# Altium footprint library xL865.PcbLib: 1 footprints
Each footprint in its own frame and in the unit in brackets; x right, y up, seen from the top. Pads: shape width x height; smd on the part's side, far side on the other; paste and mask are expansions set on the pad; w line width, h text height; cw(c..) or ccw(c..) is an arc to the next point about the centre after c.
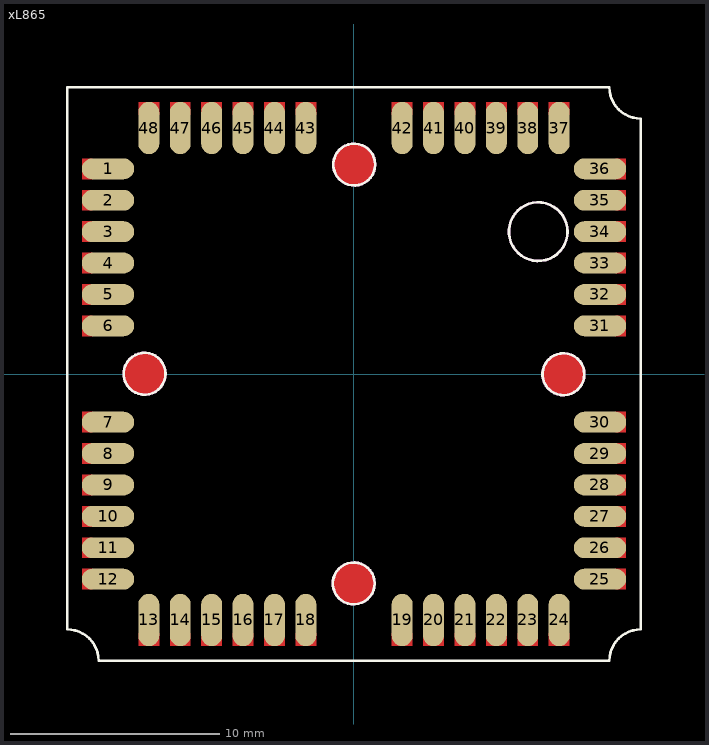
[diagram p0: the footprint, top view; thin cyan lines are the x and y axes]

## xL865 [mm]
pads (48):
  oval 2.5x1 smd paste+0 mask+0.05: 1(-11.75,9.8) 2(-11.75,8.3) 3(-11.75,6.8) 4(-11.75,5.3) 5(-11.75,3.8) 6(-11.75,2.3) 7(-11.75,-2.3) 8(-11.75,-3.8) 9(-11.75,-5.3) 10(-11.75,-6.8) 11(-11.75,-8.3) 12(-11.75,-9.8) 25(11.75,-9.8) 26(11.75,-8.3) 27(11.75,-6.8) 28(11.75,-5.3) 29(11.75,-3.8) 30(11.75,-2.3) 31(11.75,2.3) 32(11.75,3.8) 33(11.75,5.3) 34(11.75,6.8) 35(11.75,8.3) 36(11.75,9.8)
  oval 1x2.5 smd paste+0 mask+0.05: 13(-9.8,-11.75) 14(-8.3,-11.75) 15(-6.8,-11.75) 16(-5.3,-11.75) 17(-3.8,-11.75) 18(-2.3,-11.75) 19(2.3,-11.75) 20(3.8,-11.75) 21(5.3,-11.75) 22(6.8,-11.75) 23(8.3,-11.75) 24(9.8,-11.75) 37(9.8,11.75) 38(8.3,11.75) 39(6.8,11.75) 40(5.3,11.75) 41(3.8,11.75) 42(2.3,11.75) 43(-2.3,11.75) 44(-3.8,11.75) 45(-5.3,11.75) 46(-6.8,11.75) 47(-8.3,11.75) 48(-9.8,11.75)
Top Layer:
  rectangle: 1.8,-13 2.8,-12.375
  rectangle: 4.8,-13 5.8,-12.375
  rectangle: 7.8,-13 8.8,-12.375
  rectangle: 9.3,-13 10.3,-12.375
  rectangle: 6.3,-13 7.3,-12.375
  rectangle: 3.3,-13 4.3,-12.375
  rectangle: -10.3,-13 -9.3,-12.375
  rectangle: -7.3,-13 -6.3,-12.375
  rectangle: -4.3,-13 -3.3,-12.375
  rectangle: -2.8,-13 -1.8,-12.375
  rectangle: -5.8,-13 -4.8,-12.375
  rectangle: -8.8,-13 -7.8,-12.375
  rectangle: 1.8,12.375 2.8,13
  rectangle: 4.8,12.375 5.8,13
  rectangle: 7.8,12.375 8.8,13
  rectangle: 9.3,12.375 10.3,13
  rectangle: 6.3,12.375 7.3,13
  rectangle: 3.3,12.375 4.3,13
  rectangle: -8.8,12.375 -7.8,13
  rectangle: -5.8,12.375 -4.8,13
  rectangle: -2.8,12.375 -1.8,13
  rectangle: -4.3,12.375 -3.3,13
  rectangle: -7.3,12.375 -6.3,13
  rectangle: -10.3,12.375 -9.3,13
  rectangle: 12.5,-2.8 13,-1.8
  rectangle: 12.5,-4.3 13,-3.3
  rectangle: 12.5,-7.3 13,-6.3
  rectangle: 12.5,-5.8 13,-4.8
  rectangle: 12.5,-10.3 13,-9.3
  rectangle: 12.5,-8.8 13,-7.8
  rectangle: 12.5,9.3 13,10.3
  rectangle: 12.5,7.8 13,8.8
  rectangle: 12.5,4.8 13,5.8
  rectangle: 12.5,6.3 13,7.3
  rectangle: 12.5,1.8 13,2.8
  rectangle: 12.5,3.3 13,4.3
  rectangle: -13,-2.8 -12.5,-1.8
  rectangle: -13,-4.3 -12.5,-3.3
  rectangle: -13,-7.3 -12.5,-6.3
  rectangle: -13,-5.8 -12.5,-4.8
  rectangle: -13,-10.3 -12.5,-9.3
  rectangle: -13,-8.8 -12.5,-7.8
  rectangle: -13,3.3 -12.5,4.3
  rectangle: -13,1.8 -12.5,2.8
  rectangle: -13,6.3 -12.5,7.3
  rectangle: -13,4.8 -12.5,5.8
  rectangle: -13,7.8 -12.5,8.8
  rectangle: -13,9.3 -12.5,10.3
  pour cut-out: -0.991,9.962 -0.991,9.968 -0.991,10.071 -0.951,10.272 -0.872,10.461 -0.758,10.632 -0.613,10.777 -0.442,10.891 -0.253,10.969 -0.052,11.009 0.051,11.009 0.143,11.009 0.325,10.973 0.496,10.902 0.65,10.8 0.781,10.669 0.884,10.515 0.954,10.344 0.991,10.162 0.991,10.07 0.991,9.962 0.991,9.869 0.954,9.686 0.883,9.514 0.78,9.36 0.648,9.228 0.493,9.125 0.321,9.053 0.139,9.017 0.046,9.017 -0.046,9.017 -0.139,9.017 -0.321,9.053 -0.493,9.125 -0.648,9.228 -0.78,9.36 -0.883,9.514 -0.954,9.686 -0.991,9.869
  pour cut-out: -9.962,-0.991 -9.968,-0.991 -10.071,-0.991 -10.272,-0.951 -10.461,-0.872 -10.632,-0.758 -10.777,-0.613 -10.891,-0.442 -10.969,-0.253 -11.009,-0.052 -11.009,0.051 -11.009,0.143 -10.973,0.325 -10.902,0.496 -10.8,0.65 -10.669,0.781 -10.515,0.884 -10.344,0.954 -10.162,0.991 -10.07,0.991 -9.962,0.991 -9.869,0.991 -9.686,0.954 -9.514,0.883 -9.36,0.78 -9.228,0.648 -9.125,0.493 -9.053,0.321 -9.017,0.139 -9.017,0.046 -9.017,-0.046 -9.017,-0.139 -9.053,-0.321 -9.125,-0.493 -9.228,-0.648 -9.36,-0.78 -9.514,-0.883 -9.686,-0.954 -9.869,-0.991
  pour cut-out: 0.991,-9.962 0.991,-9.968 0.991,-10.071 0.951,-10.272 0.872,-10.461 0.758,-10.632 0.613,-10.777 0.442,-10.891 0.253,-10.969 0.052,-11.009 -0.051,-11.009 -0.143,-11.009 -0.325,-10.973 -0.496,-10.902 -0.65,-10.8 -0.781,-10.669 -0.884,-10.515 -0.954,-10.344 -0.991,-10.162 -0.991,-10.07 -0.991,-9.962 -0.991,-9.869 -0.954,-9.686 -0.883,-9.514 -0.78,-9.36 -0.648,-9.228 -0.493,-9.125 -0.321,-9.053 -0.139,-9.017 -0.046,-9.017 0.046,-9.017 0.139,-9.017 0.321,-9.053 0.493,-9.125 0.648,-9.228 0.78,-9.36 0.883,-9.514 0.954,-9.686 0.991,-9.869
  pour cut-out: 9.962,0.991 9.968,0.991 10.071,0.991 10.272,0.951 10.461,0.872 10.632,0.758 10.777,0.613 10.891,0.442 10.969,0.253 11.009,0.052 11.009,-0.051 11.009,-0.143 10.973,-0.325 10.902,-0.496 10.8,-0.65 10.669,-0.781 10.515,-0.884 10.344,-0.954 10.162,-0.991 10.07,-0.991 9.962,-0.991 9.869,-0.991 9.686,-0.954 9.514,-0.883 9.36,-0.78 9.228,-0.648 9.125,-0.493 9.053,-0.321 9.017,-0.139 9.017,-0.046 9.017,0.046 9.017,0.139 9.053,0.321 9.125,0.493 9.228,0.648 9.36,0.78 9.514,0.883 9.686,0.954 9.869,0.991
Bottom Layer:
  pour cut-out: -0.991,9.962 -0.991,9.968 -0.991,10.071 -0.951,10.272 -0.872,10.461 -0.758,10.632 -0.613,10.777 -0.442,10.891 -0.253,10.969 -0.052,11.009 0.051,11.009 0.143,11.009 0.325,10.973 0.496,10.902 0.65,10.8 0.781,10.669 0.884,10.515 0.954,10.344 0.991,10.162 0.991,10.07 0.991,9.962 0.991,9.869 0.954,9.686 0.883,9.514 0.78,9.36 0.648,9.228 0.493,9.125 0.321,9.053 0.139,9.017 0.046,9.017 -0.046,9.017 -0.139,9.017 -0.321,9.053 -0.493,9.125 -0.648,9.228 -0.78,9.36 -0.883,9.514 -0.954,9.686 -0.991,9.869
  pour cut-out: -9.962,-0.991 -9.968,-0.991 -10.071,-0.991 -10.272,-0.951 -10.461,-0.872 -10.632,-0.758 -10.777,-0.613 -10.891,-0.442 -10.969,-0.253 -11.009,-0.052 -11.009,0.051 -11.009,0.143 -10.973,0.325 -10.902,0.496 -10.8,0.65 -10.669,0.781 -10.515,0.884 -10.344,0.954 -10.162,0.991 -10.07,0.991 -9.962,0.991 -9.869,0.991 -9.686,0.954 -9.514,0.883 -9.36,0.78 -9.228,0.648 -9.125,0.493 -9.053,0.321 -9.017,0.139 -9.017,0.046 -9.017,-0.046 -9.017,-0.139 -9.053,-0.321 -9.125,-0.493 -9.228,-0.648 -9.36,-0.78 -9.514,-0.883 -9.686,-0.954 -9.869,-0.991
  pour cut-out: 0.991,-9.962 0.991,-9.968 0.991,-10.071 0.951,-10.272 0.872,-10.461 0.758,-10.632 0.613,-10.777 0.442,-10.891 0.253,-10.969 0.052,-11.009 -0.051,-11.009 -0.143,-11.009 -0.325,-10.973 -0.496,-10.902 -0.65,-10.8 -0.781,-10.669 -0.884,-10.515 -0.954,-10.344 -0.991,-10.162 -0.991,-10.07 -0.991,-9.962 -0.991,-9.869 -0.954,-9.686 -0.883,-9.514 -0.78,-9.36 -0.648,-9.228 -0.493,-9.125 -0.321,-9.053 -0.139,-9.017 -0.046,-9.017 0.046,-9.017 0.139,-9.017 0.321,-9.053 0.493,-9.125 0.648,-9.228 0.78,-9.36 0.883,-9.514 0.954,-9.686 0.991,-9.869
  pour cut-out: 9.962,0.991 9.968,0.991 10.071,0.991 10.272,0.951 10.461,0.872 10.632,0.758 10.777,0.613 10.891,0.442 10.969,0.253 11.009,0.052 11.009,-0.051 11.009,-0.143 10.973,-0.325 10.902,-0.496 10.8,-0.65 10.669,-0.781 10.515,-0.884 10.344,-0.954 10.162,-0.991 10.07,-0.991 9.962,-0.991 9.869,-0.991 9.686,-0.954 9.514,-0.883 9.36,-0.78 9.228,-0.648 9.125,-0.493 9.053,-0.321 9.017,-0.139 9.017,-0.046 9.017,0.046 9.017,0.139 9.053,0.321 9.125,0.493 9.228,0.648 9.36,0.78 9.514,0.883 9.686,0.954 9.869,0.991
Top Overlay:
  lines w0.127: -13.7,-12.2 cw(c-13.7,-13.7) -12.2,-13.7 12.2,-13.7 cw(c13.7,-13.7) 13.7,-12.2 13.7,12.2 cw(c13.7,13.7) 12.2,13.7 -13.7,13.7 -13.7,-12.2
Top Overlay keep-out:
  circle w0.127: c8.8,6.8 r1.4
  circle w0.127: c0.012,10.004 r1
  circle w0.127: c-10.004,0.012 r1
  circle w0.127: c-0.012,-10.004 r1
  circle w0.127: c10.004,-0.012 r1
Mechanical 1:
  text "Wiring inhibit" at -3.81,7.97 h0.91
Multi-Layer:
  pour cut-out: 7.204,6.8 7.204,6.642 7.266,6.331 7.387,6.038 7.563,5.775 7.787,5.551 8.051,5.375 8.343,5.254 8.654,5.192 8.812,5.192 8.97,5.192 9.281,5.254 9.574,5.375 9.837,5.551 10.061,5.775 10.237,6.038 10.358,6.331 10.42,6.642 10.42,6.8 10.42,6.958 10.358,7.268 10.237,7.56 10.062,7.822 9.838,8.046 9.576,8.221 9.284,8.342 8.974,8.404 8.816,8.404 8.808,8.404 8.65,8.404 8.34,8.342 8.048,8.221 7.786,8.046 7.562,7.822 7.387,7.56 7.266,7.268 7.204,6.958
3D body: height 2.7, standoff 0, extent -10.922,-10.886 10.922,10.804